# Altium footprint library ADP7185ACPZN1.0-R7.PcbLib: 3 footprints
Each footprint in its own frame and in the unit in brackets; x right, y up, seen from the top. Pads: shape width x height; smd on the part's side, far side on the other; paste and mask are expansions set on the pad; w line width, h text height; cw(c..) or ccw(c..) is an arc to the next point about the centre after c.
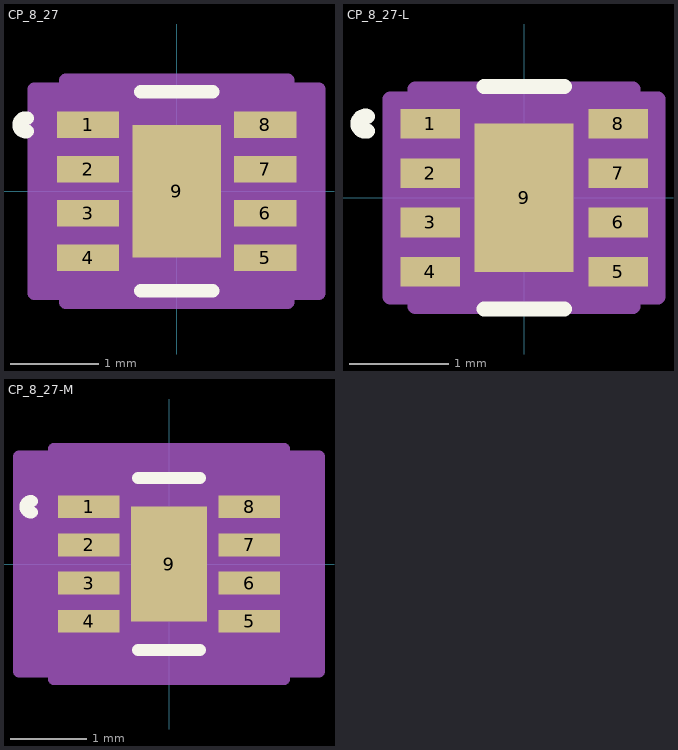
[diagram p0: the footprints below, top view; thin cyan lines are the x and y axes]

## CP_8_27 [mm]
pads (9):
  rect 0.705x0.3 smd paste+0 mask+0: 1(-1.002,0.75) 2(-1.002,0.25) 3(-1.002,-0.25) 4(-1.002,-0.75) 5(1.002,-0.75) 6(1.002,-0.25) 7(1.002,0.25) 8(1.002,0.75)
  rect 1x1.5 smd paste-0.737 mask+0: 9(0,0)
Top Overlay:
  lines w0.152: -1.688,0.676 cw(c-1.706,0.75) -1.688,0.824 ; -0.407,-1.127 0.407,-1.127 ; -0.407,1.127 0.407,1.127
Top Paste:
  region: 0.5,0.75 -0.5,0.75 -0.5,-0.75 0.5,-0.75
Mechanical 13:
  lines w0: -0.305,1 ccw(c0,1) 0.305,1
  lines w0.025: -1,-1 -1,1 1,1 1,-1 -1,-1
Mechanical 15:
  region: -1.254,-1.154 -1.609,-1.154 -1.609,1.154 -1.254,1.154 -1.254,1.254 1.254,1.254 1.254,1.154 1.609,1.154 1.609,-1.154 1.254,-1.154 1.254,-1.254 -1.254,-1.254
  lines w0.152: -1.609,-1.154 -1.254,-1.154 -1.254,-1.254 1.254,-1.254 1.254,-1.154 1.609,-1.154 1.609,1.154 1.254,1.154 1.254,1.254 -1.254,1.254 -1.254,1.154 -1.609,1.154 -1.609,-1.154
3D body: height 0.25, standoff 0, extent 0,0 0.254,0.254
3D body "CP_8_27.stp": height 0.55, standoff 0, extent -1.05,-1 1.05,1

## CP_8_27-L [mm]
pads (9):
  rect 0.603x0.3 smd paste+0 mask+0: 1(-0.952,0.75) 2(-0.952,0.25) 3(-0.952,-0.25) 4(-0.952,-0.75) 5(0.952,-0.75) 6(0.952,-0.25) 7(0.952,0.25) 8(0.952,0.75)
  rect 1x1.5 smd paste-0.737 mask+0: 9(0,0)
Top Overlay:
  lines w0.152: -1.586,0.676 cw(c-1.605,0.75) -1.586,0.824 ; -0.407,-1.127 0.407,-1.127 ; -0.407,1.127 0.407,1.127
Top Paste:
  region: 0.5,0.75 -0.5,0.75 -0.5,-0.75 0.5,-0.75
Mechanical 13:
  lines w0: -0.305,1 ccw(c0,1) 0.305,1
  lines w0.025: -1,-1 1,-1 1,1 -1,1 -1,-1
Mechanical 15:
  region: -1.102,-1.002 -1.355,-1.002 -1.355,1.002 -1.102,1.002 -1.102,1.102 1.102,1.102 1.102,1.002 1.355,1.002 1.355,-1.002 1.102,-1.002 1.102,-1.102 -1.102,-1.102
  lines w0.152: -1.355,-1.002 -1.355,1.002 -1.102,1.002 -1.102,1.102 1.102,1.102 1.102,1.002 1.355,1.002 1.355,-1.002 1.102,-1.002 1.102,-1.102 -1.102,-1.102 -1.102,-1.002 -1.355,-1.002
3D body: height 0.25, standoff 0, extent 0,0 0.254,0.254
3D body "CP_8_27-L.stp": height 0.55, standoff 0, extent -1.05,-1 1.05,1

## CP_8_27-M [mm]
pads (9):
  rect 0.806x0.3 smd paste+0 mask+0: 1(-1.053,0.75) 2(-1.053,0.25) 3(-1.053,-0.25) 4(-1.053,-0.75) 5(1.053,-0.75) 6(1.053,-0.25) 7(1.053,0.25) 8(1.053,0.75)
  rect 1x1.5 smd paste-0.737 mask+0: 9(0,0)
Top Overlay:
  lines w0.152: -1.789,0.676 cw(c-1.808,0.75) -1.789,0.824 ; -0.407,-1.127 0.407,-1.127 ; -0.407,1.127 0.407,1.127
Top Paste:
  region: 0.5,0.75 -0.5,0.75 -0.5,-0.75 0.5,-0.75
Mechanical 13:
  lines w0: -0.305,1 ccw(c0,1) 0.305,1
  lines w0.025: -1,-1 -1,1 1,1 1,-1 -1,-1
Mechanical 15:
  region: -1.508,-1.408 -1.964,-1.408 -1.964,1.408 -1.508,1.408 -1.508,1.508 1.508,1.508 1.508,1.408 1.964,1.408 1.964,-1.408 1.508,-1.408 1.508,-1.508 -1.508,-1.508
  lines w0.152: -1.964,-1.408 -1.508,-1.408 -1.508,-1.508 1.508,-1.508 1.508,-1.408 1.964,-1.408 1.964,1.408 1.508,1.408 1.508,1.508 -1.508,1.508 -1.508,1.408 -1.964,1.408 -1.964,-1.408
3D body: height 0.25, standoff 0, extent 0,0 0.254,0.254
3D body "CP_8_27-M.stp": height 0.55, standoff 0, extent -1.05,-1 1.05,1